# Altium schematic symbol library UltraZOhm_CarrierBoard.SchLib: 98 symbols (part 2 of 2)
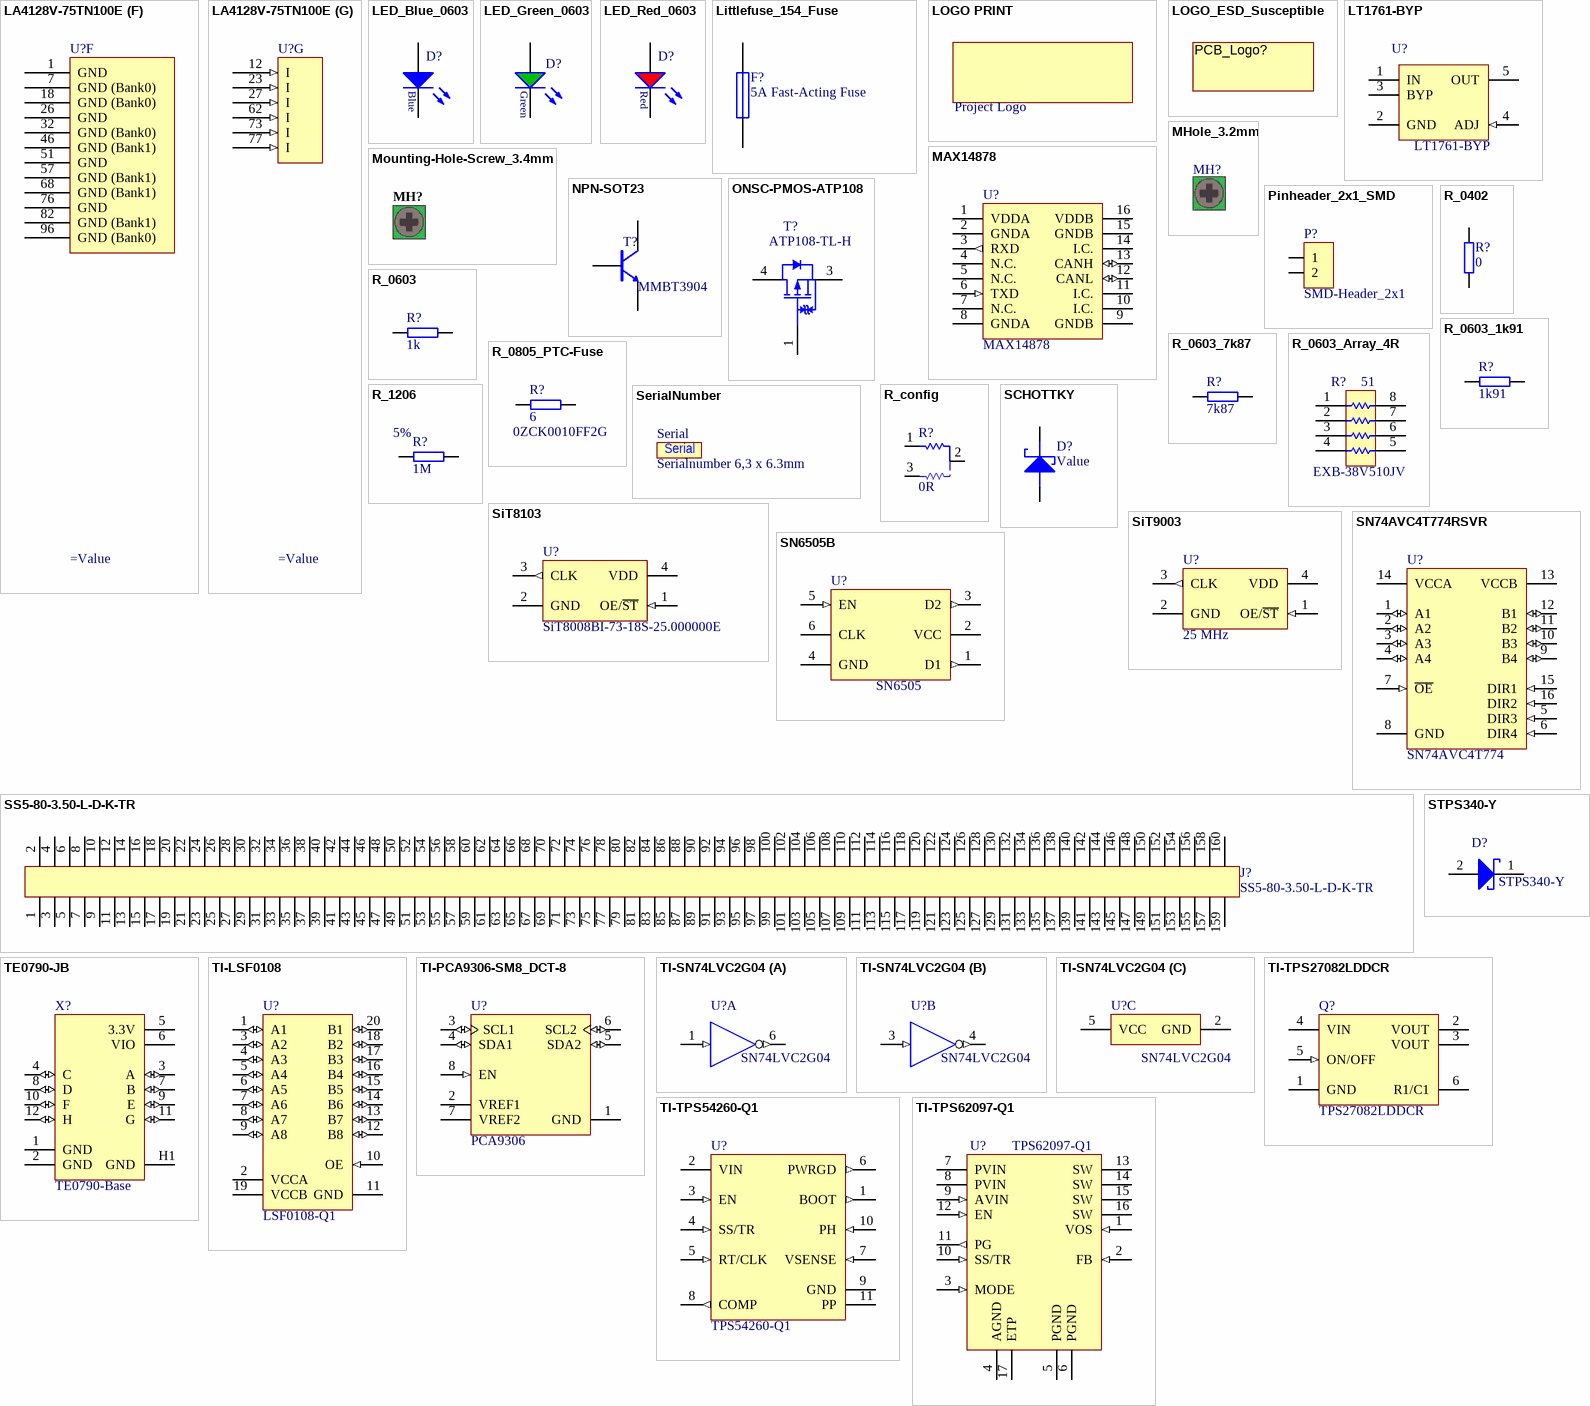
[diagram p4: symbols LA4128V-75TN100E to TI-TPS62097-Q1]

## TI-PCA9306-SM8_DCT-8
designator U?, comment PCA9306
Dual Bi-Directional I2C-Bus and SMBus Voltage Level-Translator, 0 to 5.5 V, -40 to 85 degC, 8-pin SM8 (DCT); MPN: PCA9306DCTR; MF: Texas Instruments; Created: 2018_09_17_AGeiger; Supplier 1: Mouser; Supplier Part Number 1: 595-PCA9306DCTR; ComponentLink1URL: http://www.ti.com/lit/ds/symlink/pca9306.pdf; ComponentLink1Description: Datasheet; Package: SOP-8 (DCT); Value: PCA9306
footprint SOP-8_DCT0008A_L (SOP, 8-Leads, Body 2.9x3.2mm, Pitch 0.65mm, IPC High Density)
footprint SOP-8_DCT0008A_M (SOP, 8-Leads, Body 2.9x3.2mm, Pitch 0.65mm, IPC Low Density)
footprint SOP-8_DCT0008A_N (SOP, 8-Leads, Body 2.9x3.2mm, Pitch 0.65mm, IPC Medium Density)
pins: 1 GND (power) "Ground, 0 V", 2 VREF1 (power) "Low-voltage-side reference supply voltage for SCL1 and SDA1", 3 SCL1 (io) "Serial clock, low-voltage side", 4 SDA1 (io) "Serial data, low-voltage side", 5 SDA2 (io) "Serial data, high-voltage side", 6 SCL2 (io) "Serial clock, high-voltage side", 7 VREF2 (power) "High-voltage-side reference supply voltage for SCL2 and SDA2", 8 EN (in) "Switch enable input"

## TI-SN74LVC2G04
designator U?, comment SN74LVC2G04
Dual Inverter Gate; MF: Texas Instruments; MPN: SN74LVC2G04; Created: 2018_09_14_AGeiger; Package: SOT23-6; Value: SN74LVC2G04; ComponentLink1Description: Datasheet; ComponentLink1URL: http://www.ti.com/lit/ds/symlink/sn74lvc2g04.pdf; Supplier 1: Mouser; Supplier Part Number 1: 595-74LVC2G04DBVRG4
footprint SOT23-6_L_TI_HighDensity (SOT23, 6-Leads, Body 2.15x1.4mm, Pitch 0.65mm, IPC High Density)
footprint SOT23-6_M_TI_LowDensity (SOT23, 6-Leads, Body 2.15x1.4mm, Pitch 0.65mm, IPC Low Density)
footprint SOT23-6_N_TI_MediumDensity (SOT23, 6-Leads, Body 2.15x1.4mm, Pitch 0.65mm, IPC Medium Density)
part A pins: 1 1A (in), 6 1Y (out)
part B pins: 3 2A (in), 4 2Y (out)
part C pins: 2 GND (power), 5 VCC (power)

## TI-TPS27082LDDCR
designator Q?, comment TPS27082LDDCR
Mixed: SMT; Case: SOT23-6; HelpURL: B:\AD\adlib\datasheet\TPS27082L; Value: TPS27082LDDCR; Created: 2018_06_25_AGeiger
footprint FTSH-105-01-XXX-DV-K
pins: 1 GND (power), 2 VOUT (power), 3 VOUT (power), 4 VIN (power), 5 ON/OFF (in), 6 R1/C1 (power)

## TI-TPS54260-Q1
designator U?, comment TPS54260-Q1
3.5V to 60V Step-Down Converter With Eco-mode; MPN: TPS54260QDGQRQ1; MF: Texas Instruments; Created: 2018_09_20_AGeiger; Value: TPS54260-Q1; Supplier Part Number 1: 595-TPS54260QDGQRQ1; Supplier 1: Mouser; Supplier Part Number 2: 296-28183-1-ND; Supplier 2: Digi-Key; ComponentLink1URL: http://www.ti.com/lit/ds/symlink/tps54260-q1.pdf; ComponentLink1Description: Datasheet; Package: HVSSOP-10
footprint TSOP-10_DGQ0010D_L (TSOP, 10-Leads, Body 3.1x3.1mm, Pitch 0.5mm, Thermal Pad 1.88x1.57mm, IPC High Density)
footprint TSOP-10_DGQ0010D_M (TSOP, 10-Leads, Body 3.1x3.1mm, Pitch 0.5mm, Thermal Pad 1.88x1.57mm, IPC Low Density)
footprint TSOP-10_DGQ0010D_N (TSOP, 10-Leads, Body 3.1x3.1mm, Pitch 0.5mm, Thermal Pad 1.88x1.57mm, IPC Medium Density)
pins: 1 BOOT (out) "A bootstrap capacitor is required between BOOT and PH. If the voltage on this capacitor is below the minimum required by the output device, the output is forced to switch off until the capacitor is refreshed.", 2 VIN (power) "Input supply voltage, 3.5 V to 60 V.", 3 EN (in) "Enable pin, internal pull-up current source. Pull below 1.2V to disable. Float to enable. Adjust the input undervoltage lockout with two resistors.", 4 SS/TR (in) "Slow-start and Tracking. An external capacitor connected to this pin sets the output rise time. Since the voltage on this pin overrides the internal reference, it can be used for tracking and sequencing.", 5 RT/CLK (in) "Resistor Timing and External Clock. An internal amplifier holds this pin at a fixed voltage when using an external resistor to ground to set the switching frequency. If the pin is pulled above the PLL upper threshold, a mode (See Datasheet)", 6 PWRGD (out) "An open drain output, asserts low if output voltage is low due to thermal shutdown, dropout, over-voltage or EN shut down.", 7 VSENSE (in) "Inverting node of the transconductance ( gm) error amplifier.", 8 COMP (out) "Error amplifier output, and input to the output switch current comparator. Connect frequency compensation components to this pin.", 9 GND (power) "Ground", 10 PH (in) "The source of the internal high-side power MOSFET.", 11 PP (power) "GND pin must be electrically connected to the exposed pad on the printed circuit board for proper operation."

## TI-TPS62097-Q1
designator U?, comment TPS62097-Q1
2A High Efficiency Step-Down Converter in Wettable Flanks QFN Package; MPN: TPS62097QWRGTRQ1; MF: Texas Instruments; Created: 2018_09_18_AGeiger; Supplier 1: Farnell; Supplier Part Number 1: 2851313; Supplier 2: Mouser; Supplier Part Number 2: 595-TPS62097QWRGTRQ1; Supplier 3: Digi-Key; Supplier Part Number 3: 296-48349-1-ND; Package: VQFN-16 (RGT Package with Wettable Flanks); ComponentLink1URL: http://www.ti.com/lit/ds/symlink/tps62097-q1.pdf; ComponentLink1Description: Datasheet; Value: TPS62097-Q1
footprint QFN-16_TI (QFN, 16-Leads, Body 3x3mm, Pitch 0.5mm, Thermal Pad 1.65x1.65mm)
pins: 1 VOS (in), 2 FB (in), 3 MODE (in), 4 AGND (power) "Output power good (High = VOUT ready, Low = VOUT below nominal regulation) ; open drain (requires pull-up resistor; goes high impedance, when device is switched off)", 5 PGND (power), 6 PGND (power), 7 PVIN (power), 8 PVIN (power), 9 AVIN (in), 10 SS/TR (in), 11 PG (out), 12 EN (in), 13 SW (power), 14 SW (power), 15 SW (power), 16 SW (power), 17 ETP "The exposed thermal pad is connected to AGND. It must be soldered to achieve appropriate power dissipation and mechanical reliability."

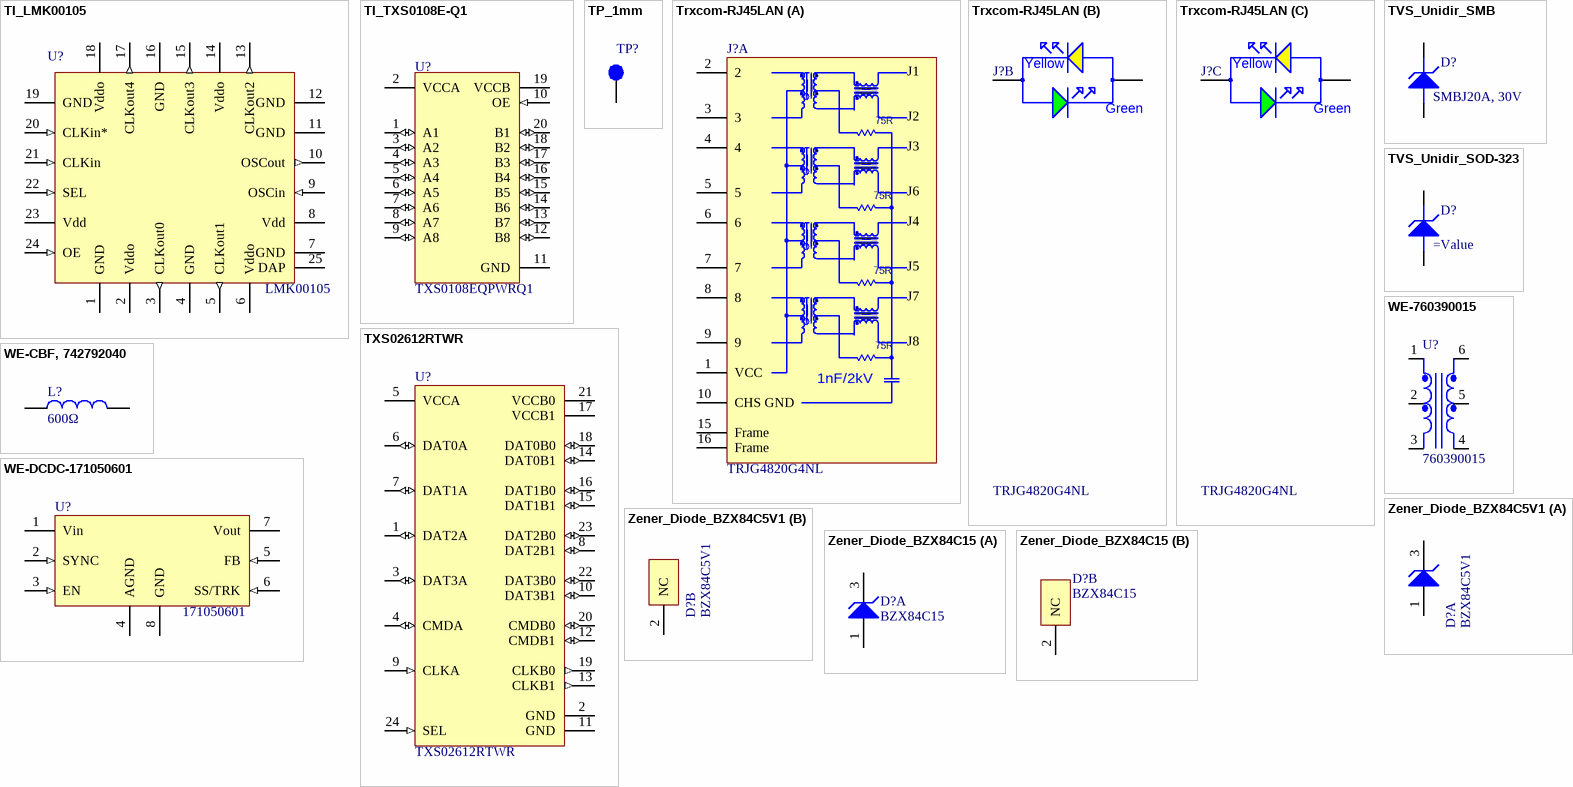
[diagram p3: symbols TI_LMK00105 to Zener_Diode_BZX84C15]

## TI_LMK00105
designator U?, comment LMK00105
Ultra-Low Jitter LVCMOS Fanout Buffer ad Level Translator With Universal Input; MPN: LMK00105SQ/NOPB; MF: Texas Instruments; Package: WQFN-24; Created: 2018_12_19_AGeiger; Value: LMK00105; Supplier 2: Mouser; Supplier 1: Farnell; Supplier 3: Digi-Key; Supplier Part Number 1: 2492236; Supplier Part Number 3: 296-35192-1-ND; Supplier Part Number 2: 926-LMK00105SQ/NOPB
footprint WQFN24-24_TI (QFN, 24-Leads, Body 4x4mm, Pitch 0.5mm, Thermal Pad 2.6x2.6mm)
pins: 1 GND, 2 Vddo, 3 CLKout0 (out), 4 GND, 5 CLKout1 (out), 6 Vddo (power), 7 GND, 8 Vdd (power), 9 OSCin (in), 10 OSCout (out), 11 GND, 12 GND, 13 CLKout2 (out), 14 Vddo (power), 15 CLKout3 (out), 16 GND "Port 1 I/O 6", 17 CLKout4 (out), 18 Vddo (power), 19 GND, 20 CLKin* (in), 21 CLKin (in), 22 SEL (in), 23 Vdd (power), 24 OE (in), 25 DAP

## TI_TXS0108E-Q1
designator U?, comment TXS0108EQPWRQ1
8-Bit Bi-directional level-shifter; OperationTempMax: +125°C; Automotive Grade: AEC-Q100; OperationTempMin: -40°C; MF: Texas Instruments; ComponentLink2Description: Datasheet; ComponentLink2URL: http://www.ti.com/lit/ds/symlink/txs0108e-q1.pdf; Package: TSSOP-20; Value: TXS0108EQPWRQ1; MPN: TXS0108EQPWRQ1; Created: 2020_10_22_AGeiger; Supplier 1: Mouser; Supplier Part Number 1: 595-TXS0108EQPWRQ1; Supplier Part Number 2: 296-23011-1-ND; Supplier 2: Digi-Key
footprint TI_PW_R-PDSO-G20_N (SOP, 20-Leads, Body 6.6x4.5mm, Pitch 0.65mm, IPC Medium Density)
pins: 1 A1 (io), 2 VCCA (power), 3 A2 (io), 4 A3 (io), 5 A4 (io), 6 A5 (io), 7 A6 (io), 8 A7 (io), 9 A8 (io), 10 OE (in), 11 GND (power), 12 B8 (io), 13 B7 (io), 14 B6 (io), 15 B5 (io), 16 B4 (io), 17 B3 (io), 18 B2 (io), 19 VCCB (power), 20 B1 (io)

## TP_1mm
designator TP?, comment Testpoint 1mm  (value not drawn)
Created: 2018_06_25_AGeiger; Value: Testpoint 1mm
footprint TP_1mm
pins: 1

## Trxcom-RJ45LAN
designator J?, comment TRJG4820G4NL
LAN-Transformer 10/100/1000 BaseT; AN: 27357; Mixed: THT; Trenz-Stock: Yes; Technology: -40 to +85 °C; HelpURL: B:\ad\adlib\datasheet\TRJG4820G4NL; H-ART: TRJG4820G4NL; Created: 2018_07_20_AGeiger; Value: TRJG4820G4NL
footprint MIC38013-5151T-LF3
part A pins: 1 VCC (power), 2, 3, 4, 5, 6, 7, 8, 9, 10 CHS GND (power), 15 Frame, 16 Frame
part B pins: 11 GREEN, 12 YELLOW
part C pins: 13 GREEN, 14 YELLOW
part A text: J1; 75R; J2; J3; J6; J4; J5; J7; J8; 1nF/2kV
part B text: Yellow; Green
part C text: Yellow; Green

## TVS_Unidir_SMB
designator D?, comment SMBJ20A, 30V
TVS, Unidirectional, 600W; MF: Fairchild; Package: SMB DO-214AA; MPN: SMBJ20A; Created: 2019_09_14_AGeiger; Value: SMBJ20A, 30V; Supplier 1: Mouser; Supplier Part Number 1: 512-SMBJ30A; ComponentLink1URL: https://www.mouser.de/datasheet/2/308/SMBJ30A-1297653.pdf; ComponentLink1Description: Datasheet
footprint DIOM5236X261N
pins: 1 KATHODE, 2 ANODE

## TVS_Unidir_SOD-323
designator D?
Ultra Low Capacitance TVS Array, Unidirectional; MPN: CDSOD323-T03SC; MF: Bourns; Value: CDSOD323-T03SC; Breakdown Voltage: 4 V; Qualification: AEC-Q101; Package: SOD-323; Created: 2019_09_14_AGeiger; Supplier 1: Farnell; Supplier Part Number 1: 2341910; ComponentLink1URL: https://www.mouser.de/datasheet/2/54/dsod323-txxsc-777083.pdf; ComponentLink1Description: Datasheet; Supplier 2: Mouser; Supplier 3: Digi-Key; Supplier Part Number 2: 652-CDSOD323-T03SC; Supplier Part Number 3: CDSOD323-T03SCCT-ND
footprint SOD-323_STMicroelectronics (SOD, 2-Leads, Body 1.7x1.25mm)
pins: 1 KATHODE, 2 ANODE

## TXS02612RTWR
designator U?
ComponentLink1Describtion: Datasheet; MF: Texas Instruments; Package: QFN24; HelpURL: http://www.ti.com/product/TXS02612/samplebuy?CMP=conv-poasamples#samplebuy; Value: TXS02612RTWR; Created: 2018_06_25_AGeiger; ComponentLink1URL: http://www.ti.com/lit/ds/symlink/txs02612.pdf; MPN: TXS02612RTWR; Supplier 1: Farnell; Supplier 2: Mouser; Supplier 3: Digi-Key; Supplier Part Number 1: 2335617RL; Supplier Part Number 2: 595-TXS02612RTWR; Supplier Part Number 3: 296-23869-1-ND
footprint QFN50P400X400X80-25N-255 (QFN, 24-Leads, Body 4,1x4,1mm (max), Pitch 0,50mm, IPC Medium Density)
pins: 1 DAT2A (io) "Data bit 2. Referenced to VCCA.", 2 GND (power) "Ground", 3 DAT3A (io) "Data bit 3. Referenced to VCCA.", 4 CMDA (io) "Command bit. Referenced to VCCA.", 5 VCCA (power) "A-port supply voltage. 1.1 V = VCCA = 3.6 V.", 6 DAT0A (io) "Data bit 0. Referenced to VCCA.", 7 DAT1A (io) "Data bit 1. Referenced to VCCA.", 8 DAT2B1 (io) "Data bit 2. Referenced to VCCB1.", 9 CLKA (in) "Clock input A. Referenced to VCCA.", 10 DAT3B1 (io) "Data bit 3. Referenced to VCCB1.", 11 GND (power) "Ground", 12 CMDB1 (io) "Command bit. Referenced to VCCB1.", 13 CLKB1 (out) "Clock output. Referenced to VCCB1.", 14 DAT0B1 (io) "Data bit 0. Referenced to VCCB1.", 15 DAT1B1 (io) "Data bit 1. Referenced to VCCB1.", 16 DAT1B0 (io) "Data bit 1. Referenced to VCCB0.", 17 VCCB1 (power) "B1-port supply voltage. 1.1 V = VCCB1 = 3.6 V.", 18 DAT0B0 (io) "Data bit 0. Referenced to VCCB0.", 19 CLKB0 (out) "Clock output. Referenced to VCCB0.", 20 CMDB0 (io) "Command bit. Referenced to VCCB0.", 21 VCCB0 (power) "B0-port supply voltage. 1.1 V = VCCB0 = 3.6 V.", 22 DAT3B0 (io) "Data bit 3. Referenced to VCCB0.", 23 DAT2B0 (io) "Data bit 2. Referenced to VCCB0.", 24 SEL (in) "Select pin to choose between B0 and B1. Referenced to VCCA."

## WE-760390015
designator U?, comment 760390015
MID-PPTI Push-Pull Transformers for Texas Instruments; MF: Wuerth Elektronik; ComponentLink1Describtion: Datasheet; Value: 760390015; Created: 2018_09_12_AGeiger; MPN: 760390015; Supplier 2: Digi-Key; Supplier 1: Mouser; Supplier Part Number 1: 710-760390015; Supplier Part Number 2: 732-4459-1-ND; ComponentLink1URL: https://www.mouser.de/datasheet/2/445/760390015-221218.pdf
footprint WE-760390015
pins: 1, 2, 3, 4, 5, 6

## WE-CBF, 742792040
designator L?, comment 600Ω
WE-CBF SMD EMI Suppression Ferrite Bead, 0805, 600Ω; MPN: 742792040; MF: Wuerth Elektronik; Type: High Current; PublishedDate: Aug 2016; ComponentLink1Description: Manufacturer; ComponentLink1URL: http://www.we-online.de; ComponentLink2Description: Datasheet; ComponentLink2URL: http://katalog.we-online.de/pbs/datasheet/742792040.pdf; Value: 600Ω; Package: 0805; Created: 2018_09_11_AGeiger; Supplier 1: Mouser; Supplier Part Number 1: 710-742792040; Supplier 2: Digi-Key; Supplier Part Number 2: 732-1620-1-ND
footprint WE-CBF_0805_High Current
pins: 1, 2

## WE-DCDC-171050601
designator U?, comment 171050601
DC/DC VIN = 6V-36V, 5A, VOUT = 0.8V-6V; MF: Wuerth Elektronik; Package: TO263-7EP; HelpURL: https://katalog.we-online.de/de/pm/MAGIC-VDRM/171050601?m=n&sp=https%3A%2F%2Fwww.we-online.de%2Fweb%2Fde%2Felectronic_components%2Fsearchpage_PBS.php%3Fsearch%3D171050601#vs_ct:1; Value: 171050601; Created: 2018_09_06_AGeiger; Supplier Part Number 1: 710-171050601; Supplier 1: Mouser; ComponentLink1URL: https://www.mouser.de/datasheet/2/445/171050601-336102.pdf; ComponentLink1Description: Datasheet; MPN: 171050601
footprint 7TO-PMOD
pins: 1 Vin (power), 2 SYNC (in), 3 EN (in), 4 AGND (power), 5 FB (in), 6 SS/TRK (in), 7 Vout (power), 8 GND (power)

## Zener_Diode_BZX84C5V1
designator D?, comment BZX84C5V1
Zener Voltage Regulator, 250 mW, 3-Pin SOT-23; MPN: BZX84C5V1LT1G; MF: On Semiconductor; Packing: Tape and Reel; ComponentLink3URL: http://www.onsemi.cn/pub_link/Collateral/318-08.PDF; DatasheetVersion: Rev. 17; ComponentLink3Description: Package Specification; ComponentLink2Description: Datasheet; ComponentLink2URL: http://www.onsemi.com/pub_link/Collateral/BZX84C2V4LT1-D.PDF; PackageVersion: Rev. AP, 11/2009; PackageReference: SOT-23-3-318-08; ComponentLink1Description: Manufacturer URL; ComponentLink1URL: http://www.onsemi.com/; Mounting Technology: Surface Mount; PackageDescription: 3-Pin Small Outline Transistor, Body 2.92 x 1.3 mm, Pitch 0.95 mm; RoHS: Pb-Free; Value: BZX84C5V1; Created: 2018_09_13_AGeiger; Supplier 1: Mouser; Supplier Part Number 1: 863-BZX84C5V1LT1G
footprint SOT-23-3_ONSC (SOT23, 3-Leads, Body 2.92x1.3mm, Pitch 0.95mm)
part A pins: 1 A, 3 K
part B pins: 2 NC

## Zener_Diode_BZX84C15
designator D?, comment BZX84C15
Zener Voltage Regulator, 225 mW, 3-Pin SOT-23; MPN: BZX84C15LT1G; MF: On Semiconductor; ComponentLink3URL: http://www.onsemi.cn/pub_link/Collateral/318-08.PDF; ComponentLink3Description: Package Specification; ComponentLink2Description: Datasheet; ComponentLink2URL: http://www.onsemi.com/pub_link/Collateral/BZX84C2V4LT1-D.PDF; PackageReference: SOT-23; ComponentLink1Description: Manufacturer URL; ComponentLink1URL: http://www.onsemi.com/; Mounting Technology: Surface Mount; PackageDescription: 3-Pin Small Outline Transistor, Body 2.92 x 1.3 mm, Pitch 0.95 mm; Created: 2018_09_17_AGeiger; Value: BZX84C15; Supplier 1: Mouser; Supplier Part Number 1: 863-BZX84C15LT1G; Supplier 2: Digi-Key; Supplier Part Number 2: BZX84C15LT1GOSCT-ND; Supplier 3: Farnell; Supplier Part Number 3: 1651578
footprint SOT-23-3_ONSC (SOT23, 3-Leads, Body 2.92x1.3mm, Pitch 0.95mm)
part A pins: 1 A, 3 K
part B pins: 2 NC